# Altium schematic symbol library MAXIM MAX6071.SchLib: 1 symbol
Pins are listed as number, name and electrical type; pins without a type are passive.

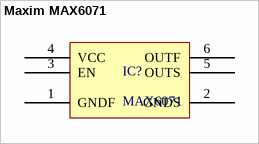
[diagram p0: symbol Maxim MAX6071]

## Maxim MAX6071
designator IC?, comment MAX6071
Low Noise High Precision Series Voltage References
pins: 1 GNDF, 2 GNDS, 3 EN, 4 VCC, 5 OUTS, 6 OUTF